# EAGLE library part DP83848C (library JLB6_Processor)
MII/RMII Ethernet PHY DP83848 Ns
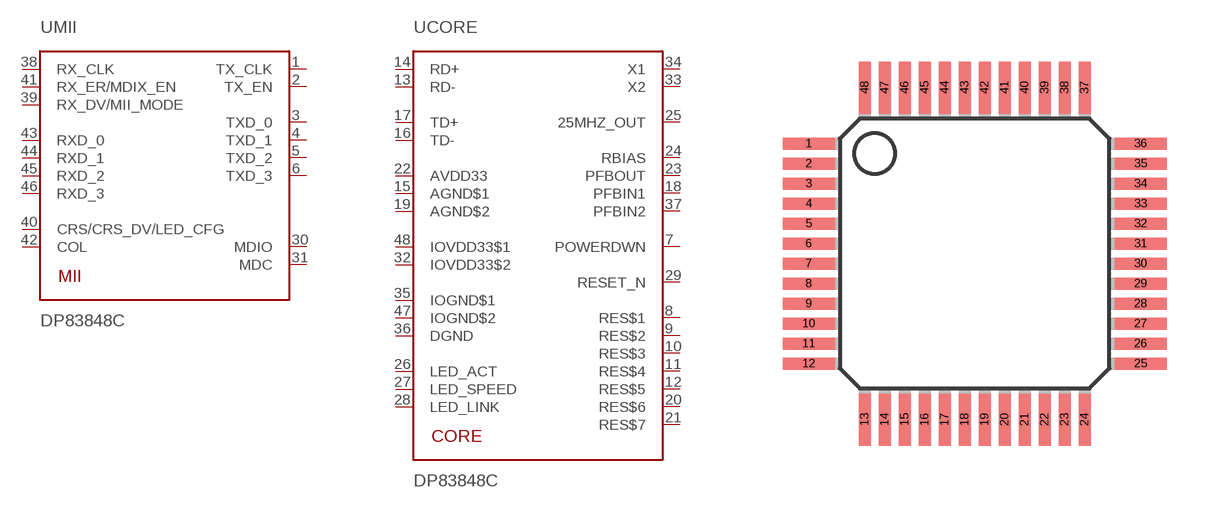
[diagram p12: symbol with the pads of TQFP48; footprint TQFP48]

Designator prefix U; gates CORE=DP83848_CORE MII=DP83848_MII

## DP83848C  [TQFP48]
1  MII:TX_CLK  out
2  MII:TX_EN
3  MII:TXD_0
4  MII:TXD_1
5  MII:TXD_2
6  MII:TXD_3
7  CORE:POWERDWN
8  CORE:RES$1
9  CORE:RES$2
10  CORE:RES$3
11  CORE:RES$4
12  CORE:RES$5
13  CORE:RD-
14  CORE:RD+
15  CORE:AGND$1  pwr
16  CORE:TD-
17  CORE:TD+
18  CORE:PFBIN1  in
19  CORE:AGND$2  pwr
20  CORE:RES$6
21  CORE:RES$7
22  CORE:AVDD33  pwr
23  CORE:PFBOUT  out
24  CORE:RBIAS  in
25  CORE:25MHZ_OUT  out
26  CORE:LED_ACT
27  CORE:LED_SPEED
28  CORE:LED_LINK
29  CORE:RESET_N
30  MII:MDIO
31  MII:MDC  in
32  CORE:IOVDD33$2  pwr
33  CORE:X2  out
34  CORE:X1  in
35  CORE:IOGND$1  pwr
36  CORE:DGND  pwr
37  CORE:PFBIN2  in
38  MII:RX_CLK  out
39  MII:RX_DV/MII_MODE
40  MII:CRS/CRS_DV/LED_CFG
41  MII:RX_ER/MDIX_EN
42  MII:COL
43  MII:RXD_0
44  MII:RXD_1
45  MII:RXD_2
46  MII:RXD_3
47  CORE:IOGND$2  pwr
48  CORE:IOVDD33$1  pwr

## Footprint TQFP48 (pad centres in mm)
Thin Quad Flat Pack
smd 1.3 x 0.3: 1 -4.15,2.75; 2 -4.15,2.25; 3 -4.15,1.75; 4 -4.15,1.25; 5 -4.15,0.75; 6 -4.15,0.25; 7 -4.15,-0.25; 8 -4.15,-0.75; 9 -4.15,-1.25; 10 -4.15,-1.75; 11 -4.15,-2.25; 12 -4.15,-2.75; 25 4.15,-2.75; 26 4.15,-2.25; 27 4.15,-1.75; 28 4.15,-1.25; 29 4.15,-0.75; 30 4.15,-0.25; 31 4.15,0.25; 32 4.15,0.75; 33 4.15,1.25; 34 4.15,1.75; 35 4.15,2.25; 36 4.15,2.75
smd 0.3 x 1.3: 13 -2.75,-4.15; 14 -2.25,-4.15; 15 -1.75,-4.15; 16 -1.25,-4.15; 17 -0.75,-4.15; 18 -0.25,-4.15; 19 0.25,-4.15; 20 0.75,-4.15; 21 1.25,-4.15; 22 1.75,-4.15; 23 2.25,-4.15; 24 2.75,-4.15; 37 2.75,4.15; 38 2.25,4.15; 39 1.75,4.15; 40 1.25,4.15; 41 0.75,4.15; 42 0.25,4.15; 43 -0.25,4.15; 44 -0.75,4.15; 45 -1.25,4.15; 46 -1.75,4.15; 47 -2.25,4.15; 48 -2.75,4.15